# EAGLE library part ISO1050 (library can_driver)
ISOLATED CAN TRANSCEIVER
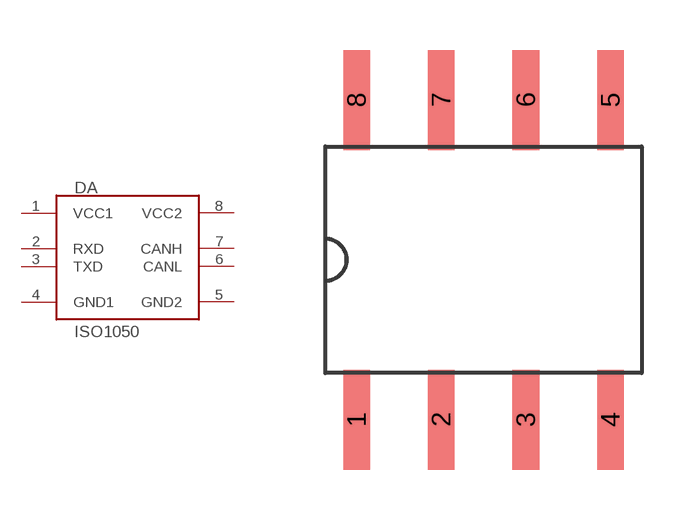
[diagram p0: symbol with the pads of DUB-8; footprint DUB-8]

Designator prefix DA

## ISO1050DUB  [DUB-8]
1  VCC1  pwr
2  RXD  out
3  TXD  in
4  GND1  pwr
5  GND2  pwr
6  CANL
7  CANH
8  VCC2  pwr

## Footprint DUB-8 (pad centres in mm)
smd 0.8 x 3: 1 -3.81,-4.8; 2 -1.27,-4.8; 3 1.27,-4.8; 4 3.81,-4.8; 5 3.81,4.8; 6 1.27,4.8; 7 -1.27,4.8; 8 -3.81,4.8